# EAGLE library part G2RL-2DC12 (library Jim)
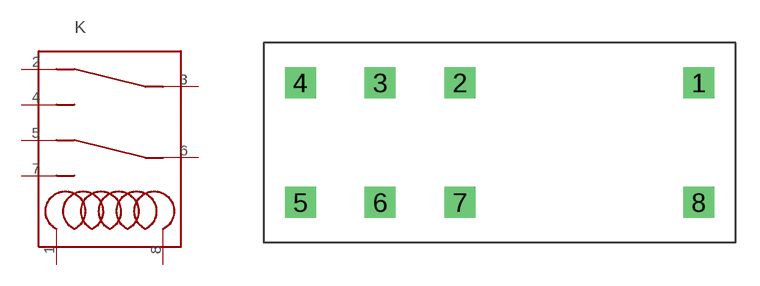
[diagram p0: symbol with the pads of G2RL-2DC12; footprint G2RL-2DC12]

Designator prefix K

## G2RL-2DC12  [G2RL-2DC12]
1  COILIN
2  A1
3  A
4  A2
5  B1
6  B
7  B2
8  COILOUT

## Footprint G2RL-2DC12 (pad centres in mm)
drill 1.3 square: 1 10,5; 2 -5,5; 3 -10,5; 4 -15,5; 5 -15,-2.5; 6 -10,-2.5; 7 -5,-2.5; 8 10,-2.5